# Altium schematic symbol library Servo.SchLib: 1 symbol
Pins are listed as number, name and electrical type; pins without a type are passive.

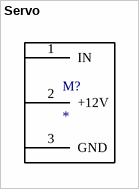
[diagram p0: symbol Servo]

## Servo
designator M?
pins: 1 IN, 2 +12V, 3 GND